# Altium footprint library 2020-07-09_11-50-48.PcbLib: 1 footprints
Each footprint in its own frame and in the unit in brackets; x right, y up, seen from the top. Pads: shape width x height; smd on the part's side, far side on the other; paste and mask are expansions set on the pad; w line width, h text height; cw(c..) or ccw(c..) is an arc to the next point about the centre after c.
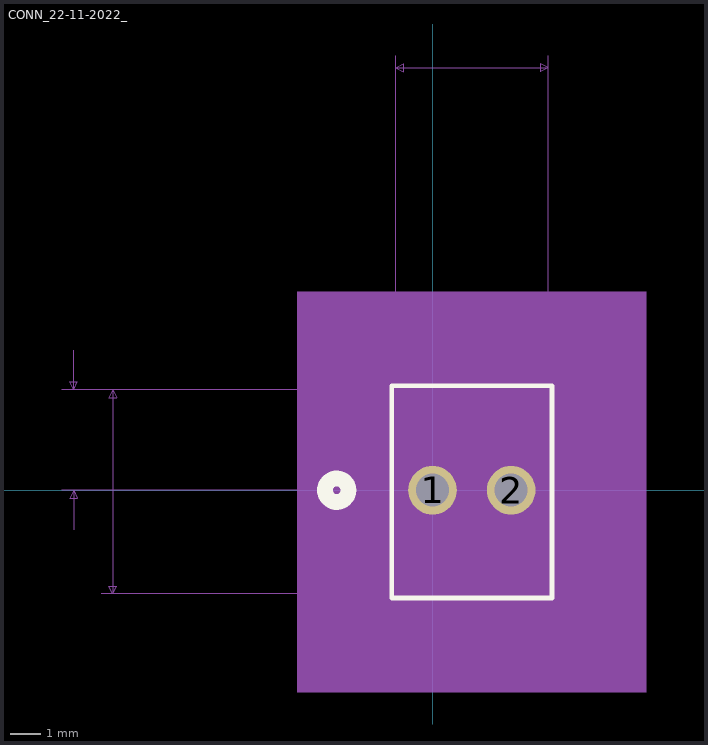
[diagram p0: the footprint, top view; thin cyan lines are the x and y axes]

## CONN_22-11-2022_ [mil]
pads (2):
  round 62 hole 42 mask+0: 1(0,0) 2(100,0)
Top Overlay:
  circle w20: c-122,0 r15
  lines w6: -52,-137.05 152,-137.05 152,132.95 -52,132.95 -52,-137.05
Bottom Overlay:
  circle w20: c-122,0 r15
Mechanical 5:
  region: -172,252.95 272,252.95 272,-257.05 -172,-257.05
Mechanical 7:
  lines w1: -472,0 50,0 ; -472,127.95 -47,127.95 ; -457,-50 -457,0 ; -457,177.95 -457,127.95 ; -422,-132.05 -47,-132.05 ; -422,127.95 -47,127.95 ; -50,212.95 0,212.95 ; -47,552.95 -47,127.95 ; 0,227.95 0,0 ; 100,0 100,227.95 ; 147,127.95 147,552.95 ; 150,212.95 100,212.95 ; 247,-50 247,0 ; 247,50 247,0 ; -457,0 -462,-10 -452,-10 -457,0 ; -457,127.95 -462,137.95 -452,137.95 -457,127.95 ; -407,-132.05 -407,127.95 ; -407,-132.05 -412,-122.05 -402,-122.05 -407,-132.05 ; -407,127.95 -412,117.95 -402,117.95 -407,127.95 ; -47,537.95 147,537.95 ; -47,537.95 -37,542.95 -37,532.95 -47,537.95 ; 0,0 262,0 0,0 ; 0,212.95 -10,217.95 -10,207.95 0,212.95 ; 100,212.95 110,217.95 110,207.95 100,212.95 ; 147,537.95 137,542.95 137,532.95 147,537.95 ; 247,0 242,10 252,10 247,0 ; 247,0 242,-10 252,-10 247,0
  text "Default Padstyle: EX62Y62D42P" at -312.5,-292.05 h50
  text "1st Mtg Padstyle: RX80Y120D50P" at -325,-367.05 h50
  text "2nd Mtg Padstyle: EX70Y70D70P" at -312.5,-442.05 h50
  text "3rd Mtg Padstyle: EX70Y70D70P" at -312.5,-517.05 h50
  text "Left Mtg Padstyle: EX60Y60D30P" at -325,-592.05 h50
  text "Right Mtg Padstyle: EX60Y60D30P" at -337.5,-667.05 h50
  text "Alt Padstyle 1: OX60Y90D30P" at -287.5,-742.05 h50
  text "Alt Padstyle 2: OX90Y60D30P" at -287.5,-817.05 h50
  text "0.1in/2.54mm" at -100,232.95 h25
  text "0.194in/4.928mm" at -43.75,557.95 h25
  text "0in/0mm" at 267,-12.5 h25
  text "0.128in/3.25mm" at -652,51.48 h25
  text "0.26in/6.604mm" at -602,-14.55 h25
Mechanical 13:
  circle w20: c0,-75 r15
  lines w1: -47,-132.05 147,-132.05 147,127.95 -47,127.95 -47,-132.05
Mechanical 15:
  region: 157,137.95 -57,137.95 -57,-142.05 157,-142.05
  lines w6: -57,-142.05 -57,137.95 157,137.95 157,-142.05 -57,-142.05
3D body: height 10, standoff 0, extent 0,0 10,10